# EAGLE library part USB-RECEPTABLE (library AtomicCon)
USB Receptable
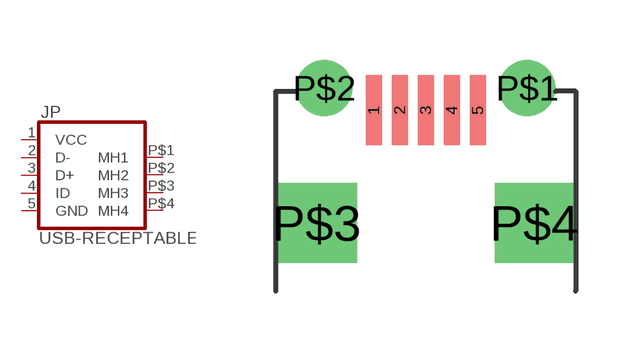
[diagram p2: symbol with the pads of FCI-10103594-0001LF; footprint FCI-10103594-0001LF]

Designator prefix JP

## USB-RECEPTABLE  [FCI-10103594-0001LF]
1  VCC
2  D-
3  D+
4  ID
5  GND
P$1  MH1
P$2  MH2
P$3  MH3
P$4  MH4

## Footprint FCI-10103594-0001LF (pad centres in mm)
FCI 10103594-0001LF RA SMD USB Micro Type B Receptable
smd 0.4 x 1.75: 1 -1.3,4.525; 2 -0.65,4.525; 3 0,4.525; 4 0.65,4.525; 5 1.3,4.525
drill 0.9: P$1 2.54,5.08; P$2 -2.54,5.08
drill 1.2 pad 2 square: P$3 -2.725,1.7; P$4 2.725,1.7